# EAGLE library part BHR-06-VUA (library BHR-06-VUA)
Box Header, Vertical, 6 Pos Source: Datasheet <https://app.adam-tech.com/products/download/data_sheet/203218/bhr-xx-vua-data-sheet.pdf>
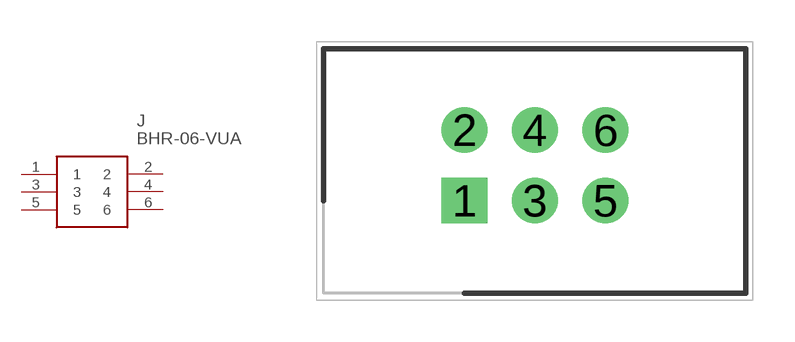
[diagram p0: symbol with the pads of SHDR6W64P254_2X3_1522X880X920P; footprint SHDR6W64P254_2X3_1522X880X920P]

Designator prefix J

## BHR-06-VUA (Description: Box Header, Vertical, 6 Pos; Height: 9.2mm; Manufacturer_Name: Adam Tech; Manufacturer_Part_Number: BHR-06-VUA)  [SHDR6W64P254_2X3_1522X880X920P]
1  1
2  2
3  3
4  4
5  5
6  6

## Footprint SHDR6W64P254_2X3_1522X880X920P (pad centres in mm)
BHR-06-VUA
drill 1.1 pad 1.65 square: 1 0,0
drill 1.1 pad 1.65: 2 0,2.54; 3 2.54,0; 4 2.54,2.54; 5 5.08,0; 6 5.08,2.54